# Altium schematic symbol library Arduino2x18Header.SchLib: 1 symbol
Pins are listed as number, name and electrical type; pins without a type are passive.

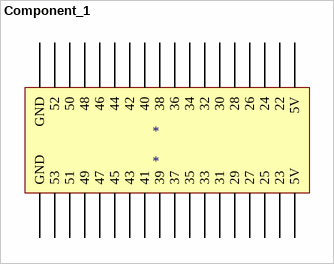
[diagram p0: symbol Component_1]

## Component_1
designator *
pins: 55 22, 56 23, 57 24, 58 25, 59 26, 60 27, 61 28, 62 29, 63 30, 64 31, 65 32, 66 33, 67 34, 68 35, 69 36, 70 37, 71 38, 72 39, 73 40, 74 41, 75 42, 76 43, 77 44, 78 45, 79 46, 80 47, 81 48, 82 49, 83 50, 84 51, 85 52, 86 53, 87 5V, 88 GND, 89 GND, 90 5V